# EAGLE library part PIC24FJXXXGB606-X_PT (library 24FJ1024GB606PT-E)
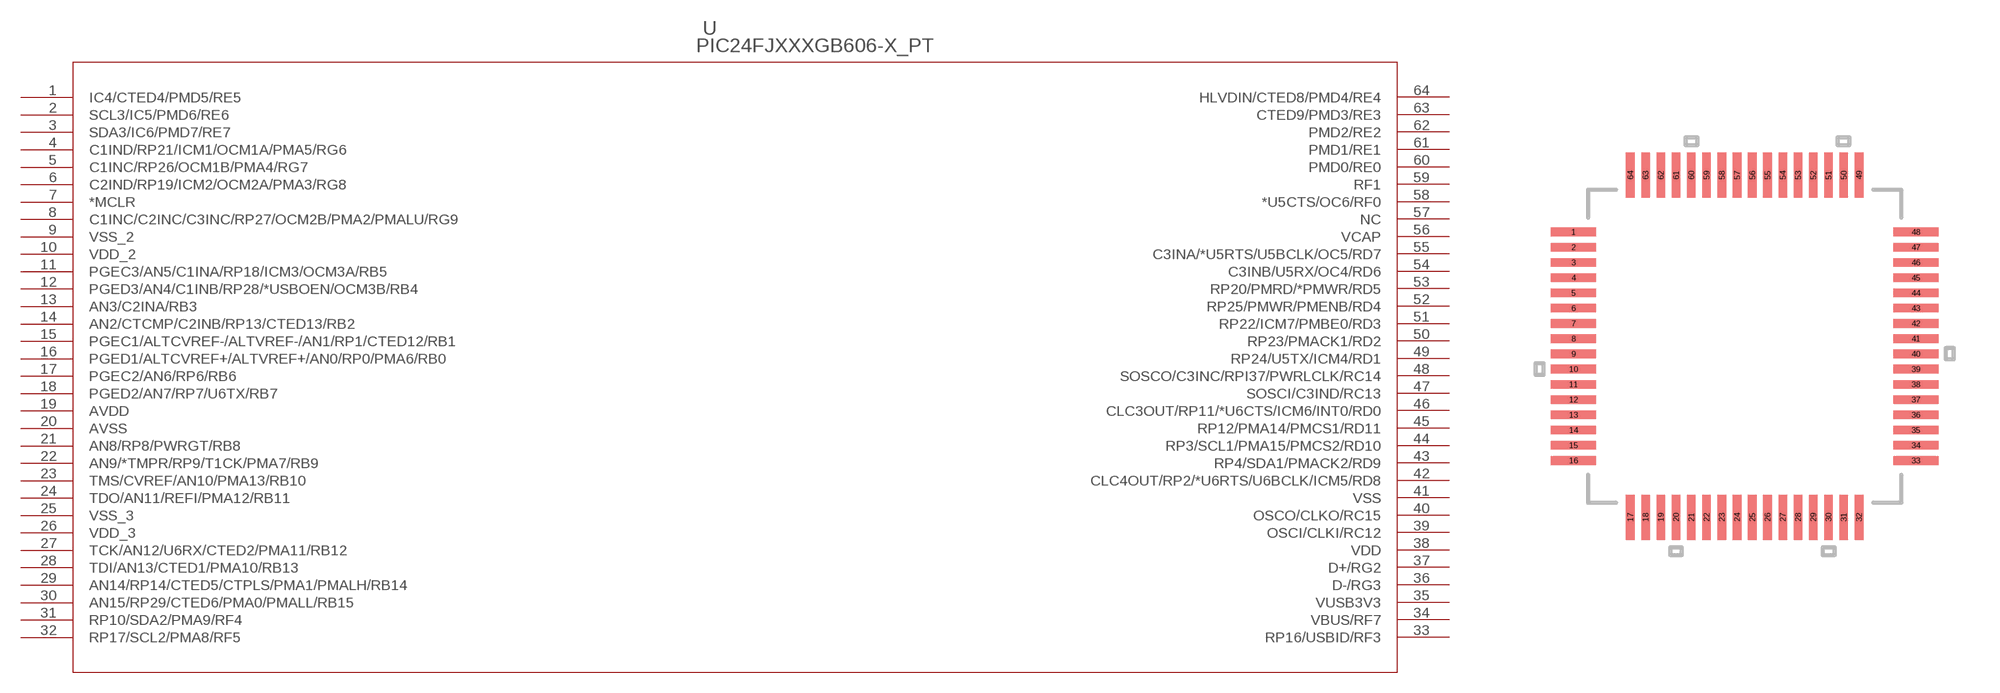
[diagram p0: symbol with the pads of TQFP64_10X10MC; footprint TQFP64_10X10MC]

Designator prefix U

## PIC24FJXXXGB606-X_PT (MANUFACTURER_PART_NUMBER: pic24fjxxxgb606-x_pt; VENDOR: Microchip)  [TQFP64_10X10MC]
1  IC4/CTED4/PMD5/RE5
2  SCL3/IC5/PMD6/RE6
3  SDA3/IC6/PMD7/RE7
4  C1IND/RP21/ICM1/OCM1A/PMA5/RG6
5  C1INC/RP26/OCM1B/PMA4/RG7
6  C2IND/RP19/ICM2/OCM2A/PMA3/RG8
7  *MCLR  pas
8  C1INC/C2INC/C3INC/RP27/OCM2B/PMA2/PMALU/RG9
9  VSS_2  pwr
10  VDD_2  pwr
11  PGEC3/AN5/C1INA/RP18/ICM3/OCM3A/RB5
12  PGED3/AN4/C1INB/RP28/*USBOEN/OCM3B/RB4
13  AN3/C2INA/RB3
14  AN2/CTCMP/C2INB/RP13/CTED13/RB2
15  PGEC1/ALTCVREF-/ALTVREF-/AN1/RP1/CTED12/RB1
16  PGED1/ALTCVREF+/ALTVREF+/AN0/RP0/PMA6/RB0
17  PGEC2/AN6/RP6/RB6
18  PGED2/AN7/RP7/U6TX/RB7
19  AVDD  pwr
20  AVSS  pwr
21  AN8/RP8/PWRGT/RB8
22  AN9/*TMPR/RP9/T1CK/PMA7/RB9
23  TMS/CVREF/AN10/PMA13/RB10
24  TDO/AN11/REFI/PMA12/RB11
25  VSS_3  pwr
26  VDD_3  pwr
27  TCK/AN12/U6RX/CTED2/PMA11/RB12
28  TDI/AN13/CTED1/PMA10/RB13
29  AN14/RP14/CTED5/CTPLS/PMA1/PMALH/RB14
30  AN15/RP29/CTED6/PMA0/PMALL/RB15
31  RP10/SDA2/PMA9/RF4
32  RP17/SCL2/PMA8/RF5
33  RP16/USBID/RF3
34  VBUS/RF7
35  VUSB3V3  pwr
36  D-/RG3
37  D+/RG2
38  VDD  pwr
39  OSCI/CLKI/RC12
40  OSCO/CLKO/RC15
41  VSS  pwr
42  CLC4OUT/RP2/*U6RTS/U6BCLK/ICM5/RD8
43  RP4/SDA1/PMACK2/RD9
44  RP3/SCL1/PMA15/PMCS2/RD10
45  RP12/PMA14/PMCS1/RD11
46  CLC3OUT/RP11/*U6CTS/ICM6/INT0/RD0
47  SOSCI/C3IND/RC13
48  SOSCO/C3INC/RPI37/PWRLCLK/RC14
49  RP24/U5TX/ICM4/RD1
50  RP23/PMACK1/RD2
51  RP22/ICM7/PMBE0/RD3
52  RP25/PMWR/PMENB/RD4
53  RP20/PMRD/*PMWR/RD5
54  C3INB/U5RX/OC4/RD6
55  C3INA/*U5RTS/U5BCLK/OC5/RD7
56  VCAP  pwr
57  NC  nc
58  *U5CTS/OC6/RF0
59  RF1  pas
60  PMD0/RE0
61  PMD1/RE1
62  PMD2/RE2
63  CTED9/PMD3/RE3
64  HLVDIN/CTED8/PMD4/RE4

## Footprint TQFP64_10X10MC (pad centres in mm)
smd 1.473 x 0.279: 1 -5.613,3.75; 2 -5.613,3.25; 3 -5.613,2.75; 4 -5.613,2.25; 5 -5.613,1.75; 6 -5.613,1.25; 7 -5.613,0.75; 8 -5.613,0.25; 9 -5.613,-0.25; 10 -5.613,-0.75; 11 -5.613,-1.25; 12 -5.613,-1.75; 13 -5.613,-2.25; 14 -5.613,-2.75; 15 -5.613,-3.25; 16 -5.613,-3.75; 33 5.613,-3.75; 34 5.613,-3.25; 35 5.613,-2.75; 36 5.613,-2.25; 37 5.613,-1.75; 38 5.613,-1.25; 39 5.613,-0.75; 40 5.613,-0.25; 41 5.613,0.25; 42 5.613,0.75; 43 5.613,1.25; 44 5.613,1.75; 45 5.613,2.25; 46 5.613,2.75; 47 5.613,3.25; 48 5.613,3.75
smd 0.279 x 1.473: 17 -3.75,-5.613; 18 -3.25,-5.613; 19 -2.75,-5.613; 20 -2.25,-5.613; 21 -1.75,-5.613; 22 -1.25,-5.613; 23 -0.75,-5.613; 24 -0.25,-5.613; 25 0.25,-5.613; 26 0.75,-5.613; 27 1.25,-5.613; 28 1.75,-5.613; 29 2.25,-5.613; 30 2.75,-5.613; 31 3.25,-5.613; 32 3.75,-5.613; 49 3.75,5.613; 50 3.25,5.613; 51 2.75,5.613; 52 2.25,5.613; 53 1.75,5.613; 54 1.25,5.613; 55 0.75,5.613; 56 0.25,5.613; 57 -0.25,5.613; 58 -0.75,5.613; 59 -1.25,5.613; 60 -1.75,5.613; 61 -2.25,5.613; 62 -2.75,5.613; 63 -3.25,5.613; 64 -3.75,5.613